# Altium integrated library HV_Box_IntLib.IntLib: 36 symbols
Pins are listed as number, name and electrical type; pins without a type are passive.

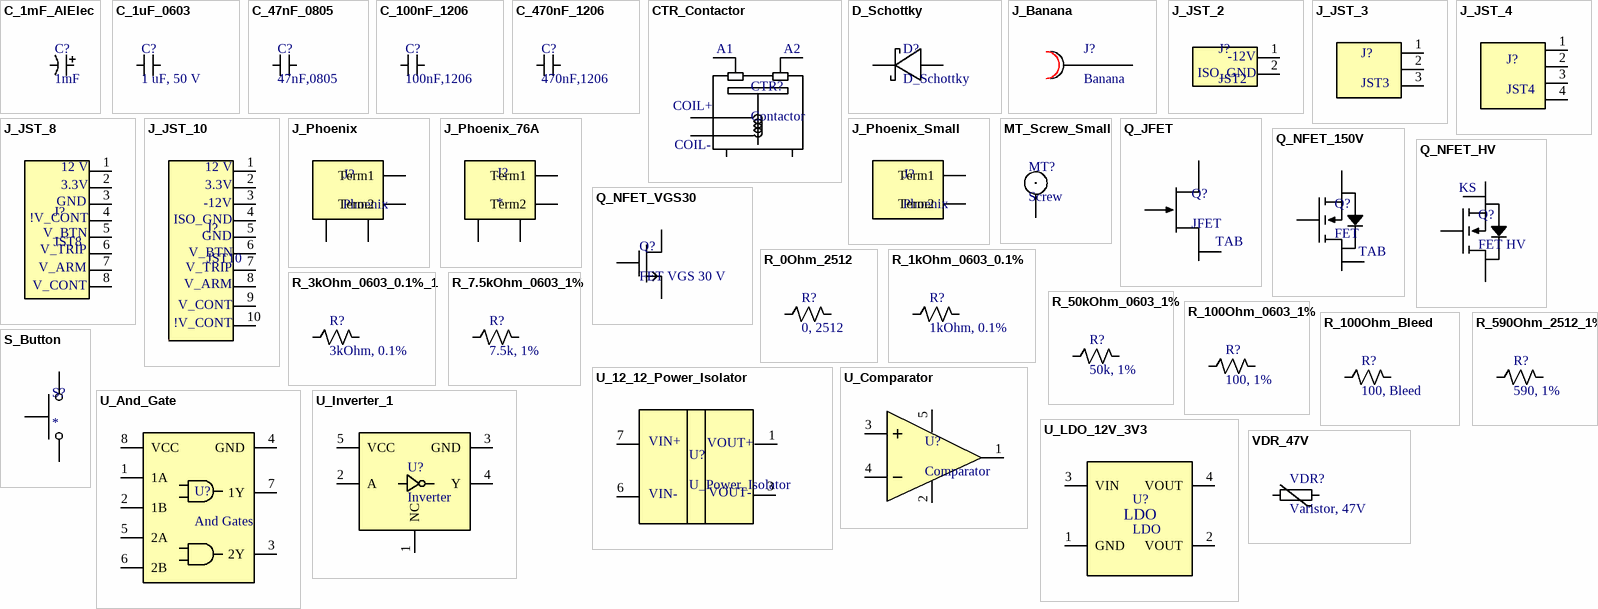
[diagram p0: symbols C_1mF_AlElec to VDR_47V]

## C_1mF_AlElec
designator C?, comment 1mF
Capacitor Through Hole Aluminum Electrolytic 1 mF, 35 V
footprint ALUM_ELEC_LG (35 V, 220 uF Aluminum Electrolytic Capaitor Footprint)
pins: 1, 2

## C_1uF_0603
designator C?, comment 1 uF, 50 V
Capacitor SMD MLCC 1 uF, 0603, 50 V
footprint 0603_CAP (SMD 0603 Capacitor Footprint)
pins: 1, 2

## C_47nF_0805
designator C?, comment 47nF,0805
Capacitor SMD MLCC 47 nF 0805, C0G/NP0
footprint 0805_CAP (SMD 0805 Capacitor Footprint)
pins: 1, 2

## C_100nF_1206
designator C?, comment 100nF,1206
Capacitor SMD MLCC 100 nF 1206, C0G/NP0
footprint 1206_CAP (1206 SMD Capacitor Footprint)
pins: 1, 2

## C_470nF_1206
designator C?, comment 470nF,1206
Capacitor SMD MLCC 470 nF 1206, C0G/NP0
footprint 1206_CAP (1206 SMD Capacitor Footprint)
pins: 1, 2

## CTR_Contactor
designator CTR?, comment Contactor
Contactor 1000 V, 150 A, 12 V Coil
footprint CONTACTOR (Contactor Footprint)
pins: 1, 2
text: A1; A2; COIL+; COIL-

## D_Schottky
designator D?
Schottky Diode, 100 V, 1 A
footprint SOD-123F (Schottky Diode SOD-123F Footprint)
pins: 1, 2

## J_Banana
designator J?, comment Banana
Banana Plug
footprint BANANA_PLUG (Banana Plug Footprint)
pins: 1 Plug

## J_JST_2
designator J?, comment JST2
Jack JST 2-pin
footprint JST_2 (2-pin JST Header Footprint, PH series)
pins: 1 Sig1, 2 Sig2
text: -12V; ISO_GND

## J_JST_3
designator J?, comment JST3
Jack JST 3-pin
footprint JST_3 (3-pin JST Header Footprint)
pins: 1 Sig1, 2 Sig2, 3 NC

## J_JST_4
designator J?, comment JST4
Jack JST 4-pin
footprint JST_4 (4-pin JST Header Footprint, PH series)
pins: 1 Sig1, 2 Sig2, 3 NC, 4 Sig4

## J_JST_8
designator J?, comment JST8
Jack JST 8-pin
footprint JST_8 (8-pin JST Header Footprint, PH series)
pins: 1 Sig1, 2 Sig2, 3 NC, 4 NC, 5 NC, 6 NC, 7 12 V, 8 GND
text: 3.3V; !V_CONT; V_BTN; V_TRIP; V_ARM; V_CONT

## J_JST_10
designator J?, comment JST10
Jack JST 10-pin
footprint JST_10 (10-pin JST Header Footprint)
pins: 1 Sig1, 2 Sig2, 3 NC, 4 NC, 5 NC, 6 NC, 7 12 V, 8 GND, 9   , 10   
text: 3.3V; -12V; ISO_GND; V_BTN; V_TRIP; V_ARM; V_CONT; !V_CONT

## J_Phoenix
designator J?, comment Phoenix
Phoenix Connector, Female, 2 position, 125 A, 1 kV per position
footprint PHOENIX_CONNECTOR (Phoenix Connector 2-position Footprint, 125 A, 1000 V per position)
pins: 1 Term1, 2 Term2, 3 Mt1, 4 Mt2

## J_Phoenix_76A
designator J?
Phoenix Connector, Female, 2 position, 76 A, 1 kV per position
footprint PHOENIX_CONNECTOR_76A (Jack Phoenix Connector  76 A rated per position 1 kV 2x1 Footprint)
pins: 1 Term1, 2 Term2, 3 Mt1, 4 Mt2

## J_Phoenix_Small
designator J?, comment Phoenix
Phoenix Connector, Female, 2 position, 2 A, 250 V per position
footprint PHOENIX_CONNECTOR_SMALL
pins: 1 Term1, 2 Term2

## MT_Screw_Small
designator MT?, comment Screw
M5/M6 Screw Mount for connecting board to resistors
footprint MOUNT_SMALL (M6/M5 Screw Mount Footprint)
pins: 1

## Q_JFET
designator Q?, comment JFET
N-Channel JFET1200 V 34 A TO 247-3
footprint TO247 (TO247 High Power FET Footprint)
pins: 1 G, 2 D, 3 S, 4 TAB

## Q_NFET_150V
designator Q?, comment FET
N-Channel Power FET 150 V 100 A
footprint TO-220 (Power FET Footprint TO-220-3)
pins: 1 G, 2 D, 3 S, 4 TAB

## Q_NFET_HV
designator Q?, comment FET HV
NFET with VDS of 1200 V, TO263-7 Package
footprint FET_HV (TO263-7 FET Footprint)
pins: 1 G, 2 S, 3 D, 4 KS

## Q_NFET_VGS30
designator Q?, comment FET VGS 30 V
NFET with VGS of 30 V, SOT23 Package
footprint SOT23 (SOT23 Footprint)
pins: 1 D, 2 G, 3 S

## R_0Ohm_2512
designator R?, comment 0, 2512
Resistor 0 Ohm 2512
footprint 2512_RES (2512 Resistor Footprint)
pins: 1, 2

## R_1kOhm_0603_0.1%
designator R?, comment 1kOhm, 0.1%
Resistor 1 kOhm 0603 0.1%
footprint 0603_RES (SMD 0603 Resistor Footprint)
pins: 1, 2

## R_3kOhm_0603_0.1%_1
designator R?, comment 3kOhm, 0.1%
Resistor 3 kOhm 0603 0.1%
footprint 0603_RES (SMD 0603 Resistor Footprint)
pins: 1, 2

## R_7.5kOhm_0603_1%
designator R?, comment 7.5k, 1%
Resistor 7.5 kOhm 0603 1%
footprint 0603_RES (SMD 0603 Resistor Footprint)
pins: 1, 2

## R_50kOhm_0603_1%
designator R?, comment 50k, 1%
Resistor 50 kOhm 0603 1%
footprint 0603_RES (SMD 0603 Resistor Footprint)
pins: 1, 2

## R_100Ohm_0603_1%
designator R?, comment 100, 1%
Resistor 100 Ohm 0603 1% 1/4 W
footprint 0603_RES (SMD 0603 Resistor Footprint)
pins: 1, 2

## R_100Ohm_Bleed
designator R?, comment 100, Bleed
Resistor 100 Ohm Bleeder
footprint BLEED_RESISTOR (Bleed resistor footprint)
pins: 1, 2

## R_590Ohm_2512_1%
designator R?, comment 590, 1%
Resistor 590 Ohm 2512 1% 1W
footprint 2512_RES (2512 Resistor Footprint)
pins: 1, 2

## S_Button
designator S?
Switch Button
footprint BUTTON (Button Lever Sensor Footprint)
pins: 1, 2

## U_12_12_Power_Isolator
designator U?, comment U_Power_Isolator
12 V -> 12 V DC-DC isolated converter, 84 mW output current, SIP7 4-lead package, 3 kV isolation
footprint SIP7 (24 V -> 24 V Isolated DC-DC Converter SIP7 Footprint)
pins: 1 VOUT+, 3 VOUT-, 6 VIN-, 7 Vin+
text: VIN+

## U_And_Gate
designator U?, comment And Gates
IC 2-in-1 AND gate
footprint VSSOP (IC 8-pin VSSOP Footprint)
pins: 1 1A, 2 1B, 3 2Y, 4 GND, 5 2A, 6 2B, 7 1Y, 8 VCC

## U_Comparator
designator U?, comment Comparator
IC 3.3V Comparator Push-Pull
footprint SC70 (IC 6-pin SC70 Footprint)
pins: 1 Out, 2 GND, 3 V+, 4 V-, 5 VDD

## U_Inverter_1
designator U?, comment Inverter
IC Single Inverter
footprint SOT23-5 (SOT23 5-pin footprint)
pins: 1 NC, 2 A, 3 GND, 4 Y, 5 VCC

## U_LDO_12V_3V3
designator U?, comment LDO
IC LDO Fixed Output 3.3V, input up to 12 V, SOT223-3 Package
footprint SOT223-3 (SOT223 3-pin Footprint)
pins: 1 GND, 2 VOUT, 3 VIN, 4 VOUT

## VDR_47V
designator VDR?, comment Varistor, 47V
Varistor, 47 V, 500 A, 10 mm Disc Through-Hole
footprint VARISTOR (Varistor Footprint)
pins: 1, 2